# EAGLE library part M02X3 (library Skoba)
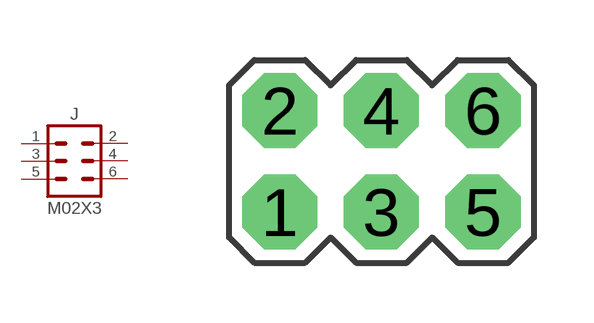
[diagram p33: symbol with the pads of 2X3; footprint 2X3]

Designator prefix J

## M02X3PTH-0.1"-MALE  [2X3]
1  1  pas
2  2  pas
3  3  pas
4  4  pas
5  5  pas
6  6  pas

## Footprint 2X3 (pad centres in mm)
drill 1.016 pad 1.88 octagon: 1 -2.54,-1.27; 2 -2.54,1.27; 3 0,-1.27; 4 0,1.27; 5 2.54,-1.27; 6 2.54,1.27